# EAGLE library part HEADER_MALE-1X06 (library MMC Eagle)
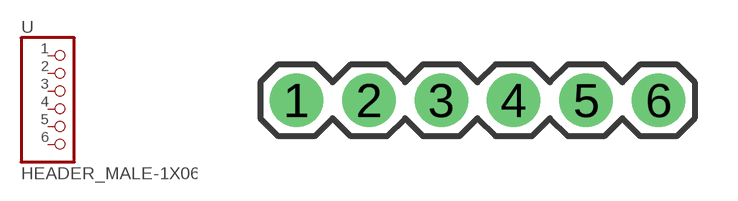
[diagram p20: symbol with the pads of HEADER_MALE-1X06; footprint HEADER_MALE-1X06]

Designator prefix -

## HEADER_MALE-1X06  [HEADER_MALE-1X06]
1  1  pas
2  2  pas
3  3  pas
4  4  pas
5  5  pas
6  6  pas

## Footprint HEADER_MALE-1X06 (pad centres in mm)
Plated Through Hole - 6 Pin Specifications: Pin count:6 Pin pitch:0.1" Example device(s): CONN_06
drill 1.016 pad 1.88: 1 0,0; 2 2.54,0; 3 5.08,0; 4 7.62,0; 5 10.16,0; 6 12.7,0